# EAGLE library part HYB5118160BSJ (library pc386ram)
Siemens HYB5118160BSJ-50/-60/-70 1Mx16 DRAM The HYB5118160BSJ is a 16 MBit dynamic RAM organized as 1,048,576 words by 16 bits. The HYB5118160BSJ utilizes a submicron CMOS silicon gate process technology, as well as advanced circuit techniques to provide wide operating margins, both internally and for the system user. Multiplexed address inputs permit the HYB5118160BSJ to be packaged in a standard SOJ-42 400 mil plastic package. These packages provide high system bit densities and are compatible with commonly used automatic testing and insertion equipment. System-oriented features include single +5V (±10%) power supply, direct interfacing with high-performance logic device families such as Schottky TTL.
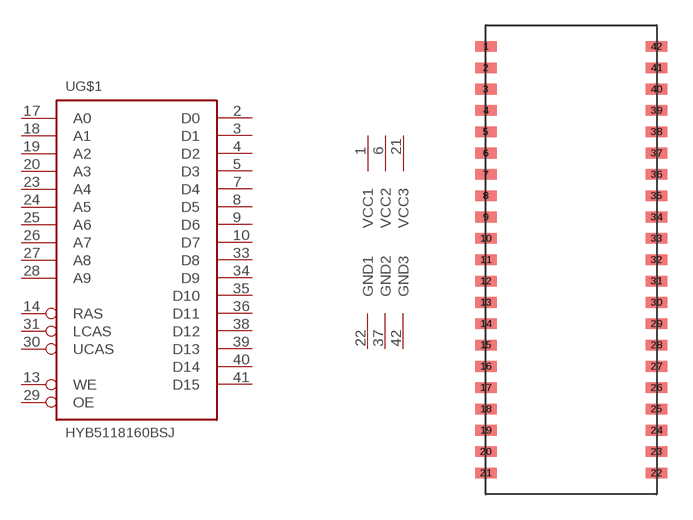
[diagram p0: symbol with the pads of SOJ-42; footprint SOJ-42]

Designator prefix U; gates G$1=5118160 G$2=PWR

## HYB5118160BSJ-50, HYB5118160BSJ-60, HYB5118160BSJ-70  [SOJ-42]
1  G$2:VCC1  pwr
2  G$1:D0
3  G$1:D1
4  G$1:D2
5  G$1:D3
6  G$2:VCC2  pwr
7  G$1:D4
8  G$1:D5
9  G$1:D6
10  G$1:D7
13  G$1:WE  in
14  G$1:RAS  in
17  G$1:A0  in
18  G$1:A1  in
19  G$1:A2  in
20  G$1:A3  in
21  G$2:VCC3  pwr
22  G$2:GND1  pwr
23  G$1:A4  in
24  G$1:A5  in
25  G$1:A6  in
26  G$1:A7  in
27  G$1:A8  in
28  G$1:A9  in
29  G$1:OE  in
30  G$1:UCAS  in
31  G$1:LCAS  in
33  G$1:D8
34  G$1:D9
35  G$1:D10
36  G$1:D11
37  G$2:GND2  pwr
38  G$1:D12
39  G$1:D13
40  G$1:D14
41  G$1:D15
42  G$2:GND3  pwr

## Footprint SOJ-42 (pad centres in mm)
Plastic Package P-SOJ-42 (400 mil) (Small Outline J-lead, SMD)
smd 1.27 x 0.635: 1 0,25.4; 2 0,24.13; 3 0,22.86; 4 0,21.59; 5 0,20.32; 6 0,19.05; 7 0,17.78; 8 0,16.51; 9 0,15.24; 10 0,13.97; 11 0,12.7; 12 0,11.43; 13 0,10.16; 14 0,8.89; 15 0,7.62; 16 0,6.35; 17 0,5.08; 18 0,3.81; 19 0,2.54; 20 0,1.27; 21 0,0; 22 10.16,0; 23 10.16,1.27; 24 10.16,2.54; 25 10.16,3.81; 26 10.16,5.08; 27 10.16,6.35; 28 10.16,7.62; 29 10.16,8.89; 30 10.16,10.16; 31 10.16,11.43; 32 10.16,12.7; 33 10.16,13.97; 34 10.16,15.24; 35 10.16,16.51; 36 10.16,17.78; 37 10.16,19.05; 38 10.16,20.32; 39 10.16,21.59; 40 10.16,22.86; 41 10.16,24.13; 42 10.16,25.4